# EAGLE library part MPQ8633A (library quentin)
16 V, 12 A, Synchronous Step-Down Converter
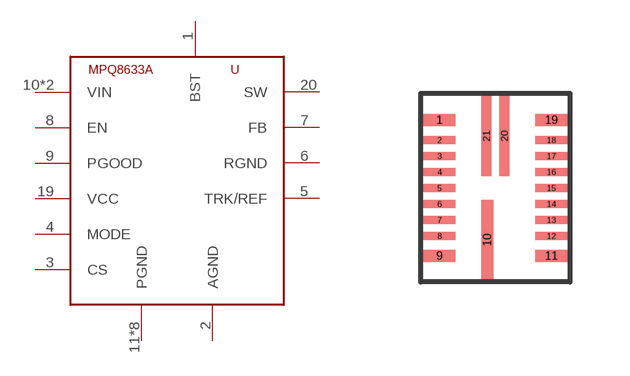
[diagram p27: symbol with the pads of QFN-21; footprint QFN-21]

Designator prefix -

## MPQ8633A  [QFN-21]
1  BST
2  AGND
3  CS
4  MODE
5  TRK/REF
6  RGND
7  FB
8  EN
9  PGOOD
10  VIN
11  PGND
12  PGND
13  PGND
14  PGND
15  PGND
16  PGND
17  PGND
18  PGND
19  VCC
20  SW
21  VIN

## Footprint QFN-21 (pad centres in mm)
smd 0.8 x 0.3: 1 0,2.9; 9 0,-0.5; 11 2.8,-0.5; 19 2.8,2.9
smd 0.8 x 0.2: 2 0,2.4; 3 0,2; 4 0,1.6; 5 0,1.2; 6 0,0.8; 7 0,0.4; 8 0,0; 12 2.8,0; 13 2.8,0.4; 14 2.8,0.8; 15 2.8,1.2; 16 2.8,1.6; 17 2.8,2; 18 2.8,2.4
smd 0.3 x 2: 10 1.2,-0.1
smd 0.25 x 2: 20 1.625,2.5; 21 1.175,2.5